# Altium integrated library ALTIUM-MAGIC-FDSM.IntLib: 4 symbols
Pins are listed as number, name and electrical type; pins without a type are passive.

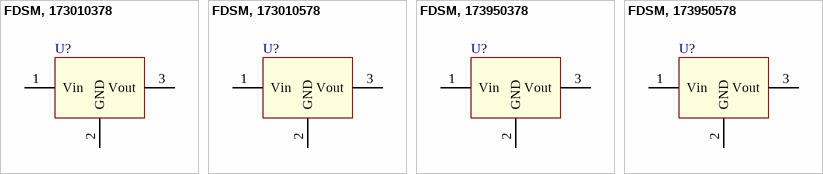
[diagram p0: symbols FDSM, 173010378 to FDSM, 173950578]

## FDSM, 173010378
designator U?
MagI³C-FDSM Fixed Step Down Regulator Module; PartNumber: 173010378; InputVoltage: 7-28V; OutputCurrent: 1A; PublishedDate: Aug 2016; Publisher: Wurth Elektronik; ComponentLink1Description: Manufacturer; ComponentLink1URL: http://www.we-online.de; ComponentLink2Description: Datasheet; ComponentLink2URL: http://katalog.we-online.de/pm/datasheet/173010378.pdf; Size: SIP-3
footprint WE-FDSM_173010x78 (SIP-3, Body 11.6x8.5x10.5)
pins: 1 Vin, 2 GND, 3 Vout

## FDSM, 173010578
designator U?
MagI³C-FDSM Fixed Step Down Regulator Module; PartNumber: 173010578; InputVoltage: 8-28V; OutputCurrent: 1A; PublishedDate: Aug 2016; Publisher: Wurth Elektronik; ComponentLink1Description: Manufacturer; ComponentLink1URL: http://www.we-online.de; ComponentLink2Description: Datasheet; ComponentLink2URL: http://katalog.we-online.de/pm/datasheet/173010578.pdf; Size: SIP-3
footprint WE-FDSM_173010x78 (SIP-3, Body 11.6x8.5x10.5)
pins: 1 Vin, 2 GND, 3 Vout

## FDSM, 173950378
designator U?
MagI³C-FDSM Fixed Step Down Regulator Module; PartNumber: 173950378; InputVoltage: 6-28V; OutputCurrent: 0.5A; PublishedDate: Aug 2016; Publisher: Wurth Elektronik; ComponentLink1Description: Manufacturer; ComponentLink1URL: http://www.we-online.de; ComponentLink2Description: Datasheet; ComponentLink2URL: http://katalog.we-online.de/pm/datasheet/173950378.pdf; Size: SIP-3
footprint WE-FDSM_173950x78 (SIP-3, Body 11.6x8.5x10.5)
pins: 1 Vin, 2 GND, 3 Vout

## FDSM, 173950578
designator U?
MagI³C-FDSM Fixed Step Down Regulator Module; PartNumber: 173950578; InputVoltage: 7-28V; OutputCurrent: 0.5A; PublishedDate: Aug 2016; Publisher: Wurth Elektronik; ComponentLink1Description: Manufacturer; ComponentLink1URL: http://www.we-online.de; ComponentLink2Description: Datasheet; ComponentLink2URL: http://katalog.we-online.de/pm/datasheet/173950578.pdf; Size: SIP-3
footprint WE-FDSM_173950x78 (SIP-3, Body 11.6x8.5x10.5)
pins: 1 Vin, 2 GND, 3 Vout